# EAGLE library part PIC18F45J10-X/P (library 4534_Node_Board)
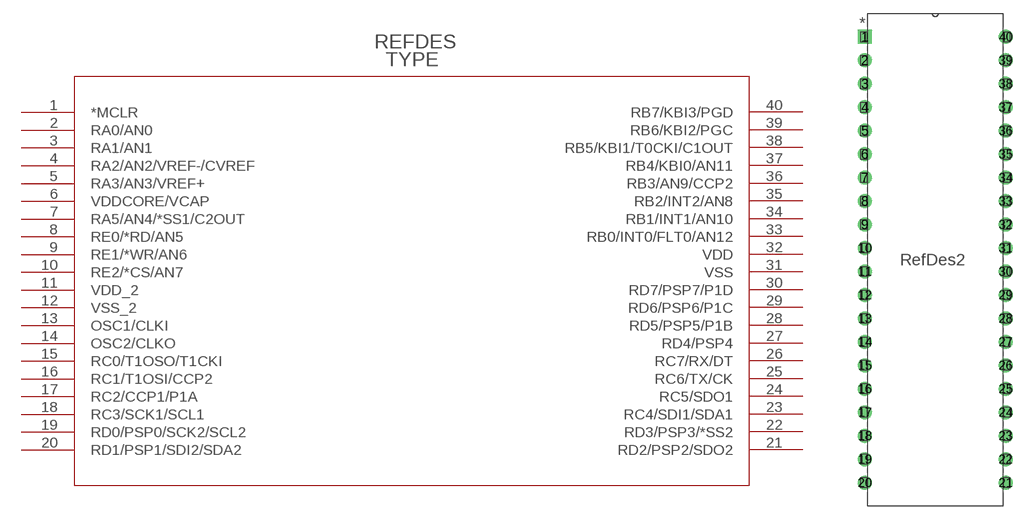
[diagram p0: symbol with the pads of PDIP40_600MC; footprint PDIP40_600MC]

Designator prefix -

## PIC18F45J10-X/P  [PDIP40_600MC]
1  *MCLR  pas
2  RA0/AN0  pas
3  RA1/AN1  pas
4  RA2/AN2/VREF-/CVREF  pas
5  RA3/AN3/VREF+  pas
6  VDDCORE/VCAP  pas
7  RA5/AN4/*SS1/C2OUT  pas
8  RE0/*RD/AN5  pas
9  RE1/*WR/AN6  pas
10  RE2/*CS/AN7  pas
11  VDD_2  pas
12  VSS_2  pas
13  OSC1/CLKI  pas
14  OSC2/CLKO  pas
15  RC0/T1OSO/T1CKI  pas
16  RC1/T1OSI/CCP2  pas
17  RC2/CCP1/P1A  pas
18  RC3/SCK1/SCL1  pas
19  RD0/PSP0/SCK2/SCL2  pas
20  RD1/PSP1/SDI2/SDA2  pas
21  RD2/PSP2/SDO2  pas
22  RD3/PSP3/*SS2  pas
23  RC4/SDI1/SDA1  pas
24  RC5/SDO1  pas
25  RC6/TX/CK  pas
26  RC7/RX/DT  pas
27  RD4/PSP4  pas
28  RD5/PSP5/P1B  pas
29  RD6/PSP6/P1C  pas
30  RD7/PSP7/P1D  pas
31  VSS  pas
32  VDD  pas
33  RB0/INT0/FLT0/AN12  pas
34  RB1/INT1/AN10  pas
35  RB2/INT2/AN8  pas
36  RB3/AN9/CCP2  pas
37  RB4/KBI0/AN11  pas
38  RB5/KBI1/T0CKI/C1OUT  pas
39  RB6/KBI2/PGC  pas
40  RB7/KBI3/PGD  pas

## Footprint PDIP40_600MC (pad centres in mm)
drill 0.991 square: 1 -15.24,48.26
drill 0.991: 2 -15.24,45.72; 3 -15.24,43.18; 4 -15.24,40.64; 5 -15.24,38.1; 6 -15.24,35.56; 7 -15.24,33.02; 8 -15.24,30.48; 9 -15.24,27.94; 10 -15.24,25.4; 11 -15.24,22.86; 12 -15.24,20.32; 13 -15.24,17.78; 14 -15.24,15.24; 15 -15.24,12.7; 16 -15.24,10.16; 17 -15.24,7.62; 18 -15.24,5.08; 19 -15.24,2.54; 20 -15.24,0; 21 0,0; 22 0,2.54; 23 0,5.08; 24 0,7.62; 25 0,10.16; 26 0,12.7; 27 0,15.24; 28 0,17.78; 29 0,20.32; 30 0,22.86; 31 0,25.4; 32 0,27.94; 33 0,30.48; 34 0,33.02; 35 0,35.56; 36 0,38.1; 37 0,40.64; 38 0,43.18; 39 0,45.72; 40 0,48.26